# EAGLE library part K-08846_EDISON-BASE64 (library Akizuki)
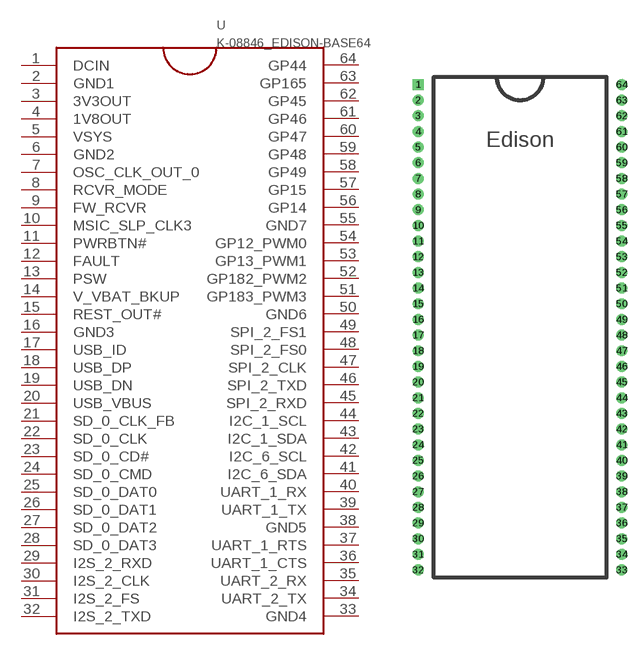
[diagram p29: symbol with the pads of EDISON-BASE64; footprint EDISON-BASE64]

Designator prefix -

## K-08846_EDISON-BASE64  [EDISON-BASE64]
1  DCIN
2  GND1
3  3V3OUT
4  1V8OUT
5  VSYS
6  GND2
7  OSC_CLK_OUT_0
8  RCVR_MODE
9  FW_RCVR
10  MSIC_SLP_CLK3
11  PWRBTN#
12  FAULT
13  PSW
14  V_VBAT_BKUP
15  REST_OUT#
16  GND3
17  USB_ID
18  USB_DP
19  USB_DN
20  USB_VBUS
21  SD_0_CLK_FB
22  SD_0_CLK
23  SD_0_CD#
24  SD_0_CMD
25  SD_0_DAT0
26  SD_0_DAT1
27  SD_0_DAT2
28  SD_0_DAT3
29  I2S_2_RXD
30  I2S_2_CLK
31  I2S_2_FS
32  I2S_2_TXD
33  GND4
34  UART_2_TX
35  UART_2_RX
36  UART_1_CTS
37  UART_1_RTS
38  GND5
39  UART_1_TX
40  UART_1_RX
41  I2C_6_SDA
42  I2C_6_SCL
43  I2C_1_SDA
44  I2C_1_SCL
45  SPI_2_RXD
46  SPI_2_TXD
47  SPI_2_CLK
48  SPI_2_FS0
49  SPI_2_FS1
50  GND6
51  GP183_PWM3
52  GP182_PWM2
53  GP13_PWM1
54  GP12_PWM0
55  GND7
56  GP14
57  GP15
58  GP49
59  GP48
60  GP47
61  GP46
62  GP45
63  GP165
64  GP44

## Footprint EDISON-BASE64 (pad centres in mm)
drill 1 pad 1.778 square: 1 0,81.28
drill 1 pad 1.778: 2 0,78.74; 3 0,76.2; 4 0,73.66; 5 0,71.12; 6 0,68.58; 7 0,66.04; 8 0,63.5; 9 0,60.96; 10 0,58.42; 11 0,55.88; 12 0,53.34; 13 0,50.8; 14 0,48.26; 15 0,45.72; 16 0,43.18; 17 0,40.64; 18 0,38.1; 19 0,35.56; 20 0,33.02; 21 0,30.48; 22 0,27.94; 23 0,25.4; 24 0,22.86; 25 0,20.32; 26 0,17.78; 27 0,15.24; 28 0,12.7; 29 0,10.16; 30 0,7.62; 31 0,5.08; 32 0,2.54; 33 33.02,2.54; 34 33.02,5.08; 35 33.02,7.62; 36 33.02,10.16; 37 33.02,12.7; 38 33.02,15.24; 39 33.02,17.78; 40 33.02,20.32; 41 33.02,22.86; 42 33.02,25.4; 43 33.02,27.94; 44 33.02,30.48; 45 33.02,33.02; 46 33.02,35.56; 47 33.02,38.1; 48 33.02,40.64; 49 33.02,43.18; 50 33.02,45.72; 51 33.02,48.26; 52 33.02,50.8; 53 33.02,53.34; 54 33.02,55.88; 55 33.02,58.42; 56 33.02,60.96; 57 33.02,63.5; 58 33.02,66.04; 59 33.02,68.58; 60 33.02,71.12; 61 33.02,73.66; 62 33.02,76.2; 63 33.02,78.74; 64 33.02,81.28